# Altium schematic symbol library Liquid Boost.SchLib: 15 symbols
Pins are listed as number, name and electrical type; pins without a type are passive.

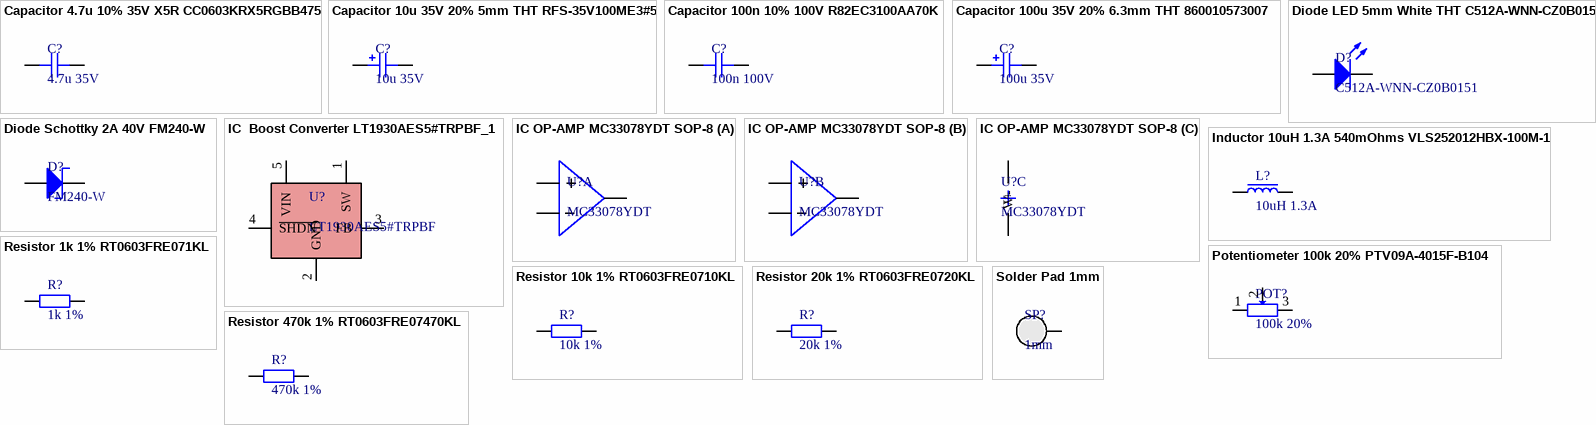
[diagram p0: symbols Capacitor 4.7u 10% 35V X5R CC0603KRX5RGBB475 to Solder Pad 1mm]

## Capacitor 4.7u 10% 35V X5R CC0603KRX5RGBB475
designator C?, comment 4.7u 35V
Multilayer Ceramic Capacitors MLCC - SMD/SMT 4.7uF 35V 10% Ceramic Capacitor; Manufacturer Part Number: CC0603KRX5RGBB475; ComponentLink1Description: Datasheet; ComponentLink1URL: https://pl.mouser.com/datasheet/2/447/UPY_GPHC_X5R_4V_to_50V_26-1827097.pdf
footprint Capacitor 0603
pins: 1, 2

## Capacitor 10u 35V 20% 5mm THT RFS-35V100ME3#5
designator C?, comment 10u 35V
Aluminum Electrolytic Capacitors - Radial Leaded 10uF 35V 20% Audio SILMIC II; Manufacturer Part Number: RFS-35V100ME3#5; ComponentLink1Description: Datasheet; ComponentLink1URL: https://pl.mouser.com/datasheet/2/129/rfs_e-606.pdf
footprint 860010573007
pins: 1, 2

## Capacitor 100n 10% 100V R82EC3100AA70K
designator C?, comment 100n 100V
Film Capacitors 100V 0.1uF 10% LS=5mm AEC-Q200; Manufacturer Part Number: R82EC3100AA70K; ComponentLink1Description: Datasheet; ComponentLink1URL: https://pl.mouser.com/datasheet/2/212/1/KEM_F3101_R82-1103738.pdf
footprint R82EC3100AA70K
pins: 1, 2

## Capacitor 100u 35V 20% 6.3mm THT 860010573007
designator C?, comment 100u 35V
Aluminum Electrolytic Capacitors - Radial Leaded WCAP-ATG8 100uF 35V 20% Radial; Manufacturer Part Number: 860010573007; ComponentLink1Description: Datasheet; ComponentLink1URL: https://pl.mouser.com/datasheet/2/445/860010573007-1725319.pdf
footprint 860010573007
pins: 1, 2

## Diode LED 5mm White THT C512A-WNN-CZ0B0151
designator D?, comment C512A-WNN-CZ0B0151
Standard LEDs - Through Hole Cool White 4600K 8200-23500mcd /; ComponentLink1Description: Datasheet; ComponentLink1URL: https://pl.mouser.com/datasheet/2/723/C512A_WNS_WNN_942-2257872.pdf; Manufacturer Part Number: C512A-WNN-CZ0B0151
footprint C512A-WNN-CZ0B0151
pins: 1, 2

## Diode Schottky 2A 40V FM240-W
designator D?, comment FM240-W
Schottky Diodes & Rectifiers 2A 40V Schottky; ComponentLink1Description: Datasheet; ComponentLink1URL: https://pl.mouser.com/datasheet/2/345/fm220-fm2200-2949.pdf; Manufacturer Part Number: FM240-W
footprint FM240-W
pins: 1, 2

## IC  Boost Converter LT1930AES5#TRPBF_1
designator U?, comment LT1930AES5#TRPBF
Switching Voltage Regulators 2.2MHz Boost Conv. in 5-lead SOT-23; ComponentLink1Description: Datasheet; ComponentLink1URL: https://pl.mouser.com/datasheet/2/609/1930f-1267314.pdf; Manufacturer Part Number: LT1930AES5#TRPBF
footprint LT1930AES5#TRPBF
pins: 1 SW, 2 GND, 3 FB, 4 ~{SHDN}, 5 VIN

## IC OP-AMP MC33078YDT SOP-8
designator U?, comment MC33078YDT
Operational Amplifiers - Op Amps CONDITIONING & INTERFACES; Manufacturer Part Number: MC33078YDT; ComponentLink1Description: Datasheet; ComponentLink1URL: https://pl.mouser.com/datasheet/2/389/cd00000474-1795554.pdf
footprint MC33078YDT
part A pins: 1 OUT, 2 IN-, 3 IN+
part B pins: 5 IN+, 6 IN-, 7 OUT
part C pins: 4 V-, 8 V+

## Inductor 10uH 1.3A 540mOhms VLS252012HBX-100M-1
designator L?, comment 10uH 1.3A
Fixed Inductors 10uH 1.3A 540mOhms Power Circuits; Manufacturer Part Number: VLS252012HBX-100M-1; ComponentLink1Description: Datasheet; ComponentLink1URL: https://product.tdk.com/system/files/dam/doc/product/inductor/inductor/smd/catalog/inductor_commercial_power_vls252012hbx-1_en.pdf
footprint VLS252012HBX-100M-1
pins: 1, 2

## Potentiometer 100k 20% PTV09A-4015F-B104
designator POT?, comment 100k 20%
Potentiometers 100K 20% 9MM CARBON POT /; Manufacturer Part Number: PTV09A-4015F-B104; ComponentLink1Description: Datasheet; ComponentLink1URL: https://pl.mouser.com/datasheet/2/54/ptv09-777818.pdf
footprint PTV09A
pins: 1, 2, 3

## Resistor 1k 1% RT0603FRE071KL
designator R?, comment 1k 1%
Thin Film Resistors - SMD 1K ohm 1% 1/10W; Manufacturer Part Number: RT0603FRE071KL; ComponentLink1Description: Datasheet; ComponentLink1URL: https://pl.mouser.com/datasheet/2/447/PYu_RT_1_to_0_01_RoHS_L_11-1669912.pdf
footprint Resistor 0603
pins: 1, 2

## Resistor 10k 1% RT0603FRE0710KL
designator R?, comment 10k 1%
Thin Film Resistors - SMD 1/10W 10K ohm 1% 50ppm; Manufacturer Part Number: RT0603FRE0710KL; ComponentLink1Description: Datasheet; ComponentLink1URL: https://pl.mouser.com/datasheet/2/447/PYu_RT_1_to_0_01_RoHS_L_11-1669912.pdf
footprint Resistor 0603
pins: 1, 2

## Resistor 20k 1% RT0603FRE0720KL
designator R?, comment 20k 1%
Thin Film Resistors - SMD 1/10W 20K ohm 1% 50ppm; Manufacturer Part Number: RT0603FRE0720KL; ComponentLink1Description: Datasheet; ComponentLink1URL: https://pl.mouser.com/datasheet/2/447/PYu_RT_1_to_0_01_RoHS_L_11-1669912.pdf
footprint Resistor 0603
pins: 1, 2

## Resistor 470k 1% RT0603FRE07470KL
designator R?, comment 470k 1%
Thin Film Resistors - SMD 1/10W 470K ohm 1% 50ppm; Manufacturer Part Number: RT0603FRE07470KL; ComponentLink1Description: Datasheet; ComponentLink1URL: https://pl.mouser.com/datasheet/2/447/PYu_RT_1_to_0_01_RoHS_L_11-1669912.pdf
footprint Resistor 0603
pins: 1, 2

## Solder Pad 1mm
designator SP?, comment 1mm
footprint SOLDER PAD 1mm
pins: 1